# Altium footprint library Components - 25.09.24 - 14.26.PcbLib: 1 footprints
Each footprint in its own frame and in the unit in brackets; x right, y up, seen from the top. Pads: shape width x height; smd on the part's side, far side on the other; paste and mask are expansions set on the pad; w line width, h text height; cw(c..) or ccw(c..) is an arc to the next point about the centre after c.
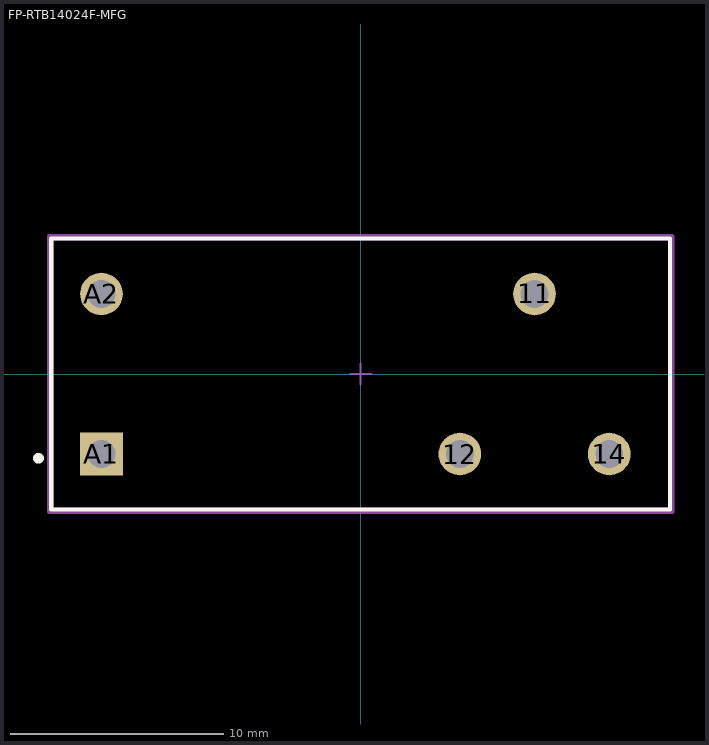
[diagram p0: the footprint, top view; thin cyan lines are the x and y axes]

## FP-RTB14024F-MFG [mm]
pads (5):
  round 2 hole 1.3 paste-1000 mask+0: 11(8.15,3.75) 12(4.65,-3.75) 14(11.65,-3.75) A2(-12.15,3.75)
  rect 2x2 hole 1.3 paste-1000 mask+0: A1(-12.15,-3.75)
Top Overlay:
  circle w0.25: c-15.1,-3.95 r0.125
  lines w0.2: -14.5,-6.35 14.5,-6.35 14.5,6.35 -14.5,6.35 -14.5,-6.35
Mechanical 5:
  lines w0.2: -14.6,-6.45 14.6,-6.45 14.6,6.45 -14.6,6.45 -14.6,-6.45
  text ".Designator" at 0,0.187 h1
Mechanical 13:
  lines w0.2: -14.5,-6.35 14.5,-6.35 14.5,6.35 -14.5,6.35 -14.5,-6.35
Mechanical 15:
  lines w0.2: -14.6,-6.45 14.6,-6.45 14.6,6.45 -14.6,6.45 -14.6,-6.45
Mechanical 16:
  lines w0.1: -0.5,0 0.5,0 ; 0,-0.5 0,0.5
3D body "Relay_TE_Connectivity_RTB14024F_eec.STEP": height 0.25, standoff 0, extent -14.6,-6.45 14.6,6.45